# Altium integrated library Maxim Video Amplifier.IntLib: 26 symbols
Pins are listed as number, name and electrical type; pins without a type are passive.

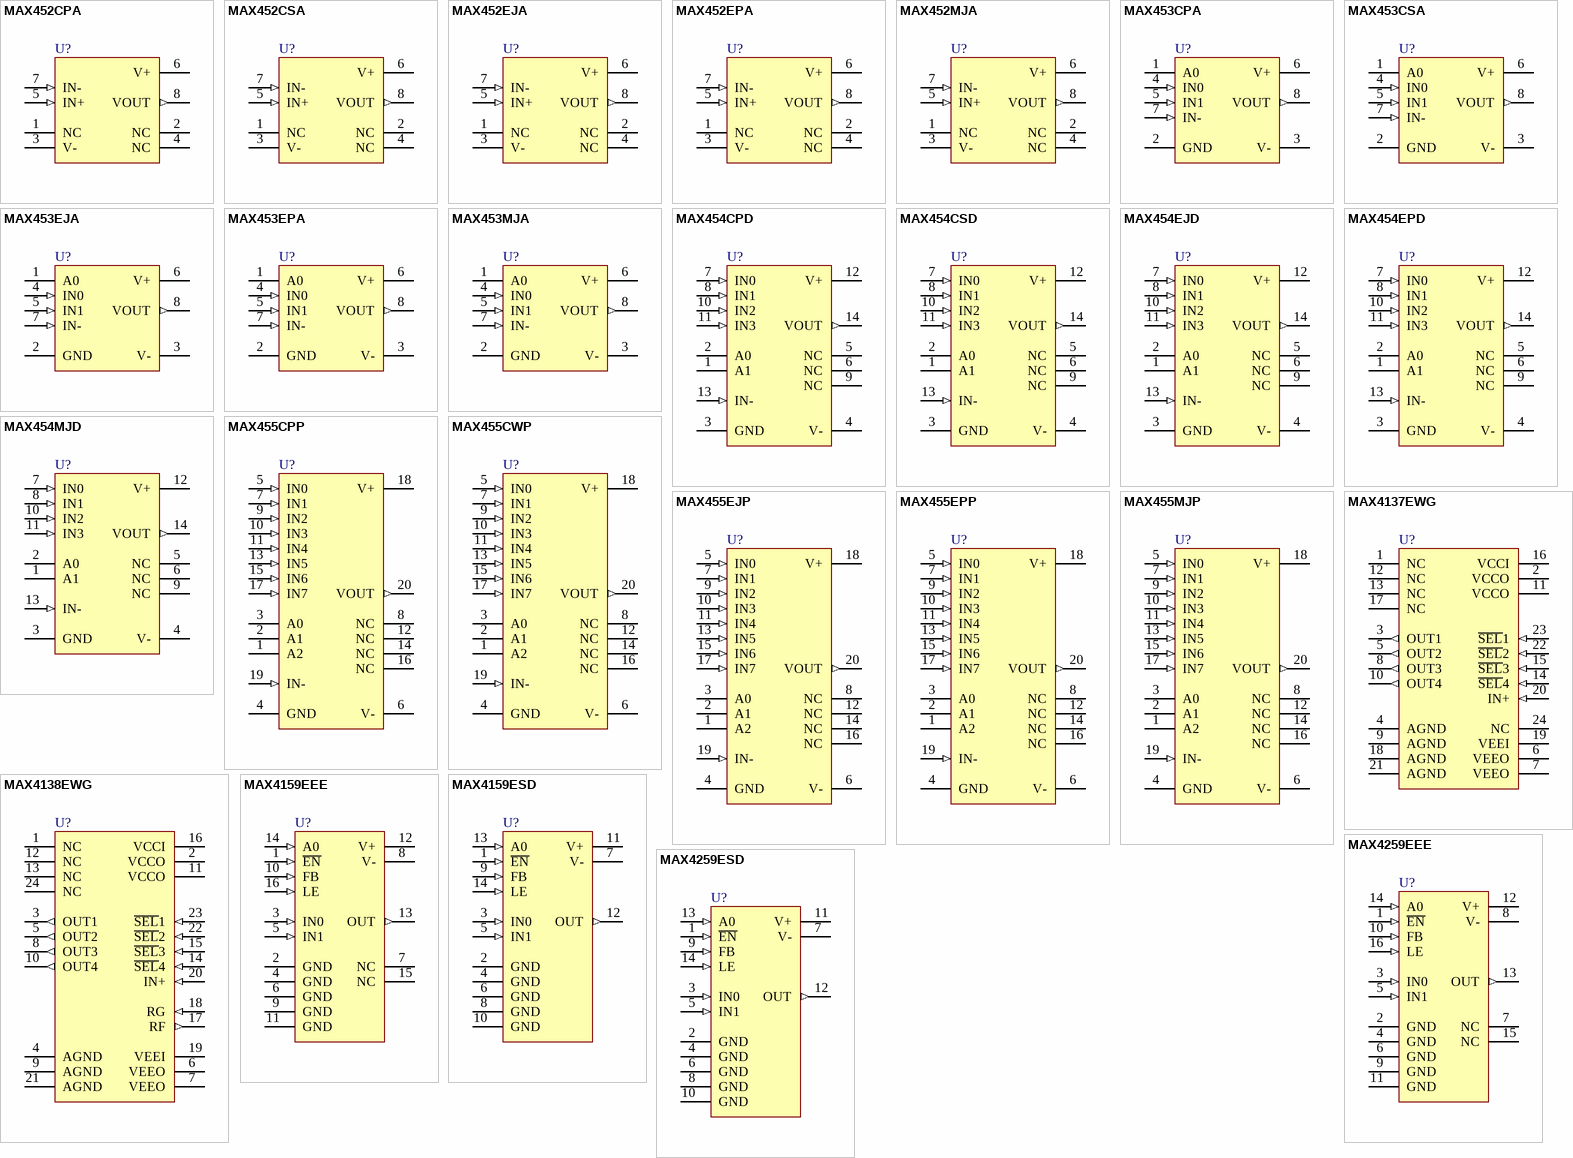
[diagram p0: symbols MAX452CPA to MAX4259ESD]

## MAX452CPA
designator U?
CMOS Video Multiplexer/Amplifier; Published: 16-Jan-2001; LatestRevisionDate: 29-May-2009; LatestRevisionNote: Component Body Added.; DatasheetVersion: Jul-1987; PackageVersion: RevB, 21-0043; PackageReference: PA8; Publisher: Altium Limited; PackageDescription: DIP, 8-Pin, Row Spacing 7.62 mm, Pitch 2.54 mm; Code_JEDEC: MS-001-AB; ComponentLink1Description: Manufacturer Link; ComponentLink1URL: http://www.maxim-ic.com/; ComponentLink2Description: Datasheet; ComponentLink2URL: http://pdfserv.maxim-ic.com/en/ds/MAX452-MAX455.pdf
footprint PA8 (DIP, 8-Leads, Row Spacing 7.62mm, Pitch 2.54mm, Body 9.38x7.24mm)
3D model PA8 (DIP, 8-Pin, Row Spacing 7.62 mm, Pitch 2.54 mm)
pins: 1 NC, 2 NC, 3 V- (power), 4 NC, 5 IN+ (in), 6 V+ (power), 7 IN- (in), 8 VOUT (out)

## MAX452CSA
designator U?
CMOS Video Multiplexer/Amplifier; Published: 16-Jan-2001; LatestRevisionDate: 13-Apr-2006; LatestRevisionNote: IPC-7351 Footprint Added.; DatasheetVersion: Jul-1987; PackageReference: NSO8; Publisher: Altium Limited; PackageDescription: 8-Pin Small Outline Integrated Circuit 1.27 mm Pitch; Code_JEDEC: MS-012-AA; Code_IPC: SOIC127P600-8; ComponentLink1Description: Manufacturer Link; ComponentLink1URL: http://www.maxim-ic.com/; ComponentLink2Description: Datasheet; ComponentLink2URL: http://pdfserv.maxim-ic.com/en/ds/MAX452-MAX455.pdf
footprint NSO8_N (SOIC, 8-Leads, Body 4.9x3.9mm, Pitch 1.27mm, IPC Medium Density)
footprint NSO8_L (SOIC, 8-Leads, Body 4.9x3.9mm, Pitch 1.27mm, IPC High Density)
footprint NSO8_M (SOIC, 8-Leads, Body 4.9x3.9mm, Pitch 1.27mm, IPC Low Density)
3D model NSO8 (8-Pin Small Outline Integrated Circuit 1.27 mm Pitch)
pins: 1 NC, 2 NC, 3 V- (power), 4 NC, 5 IN+ (in), 6 V+ (power), 7 IN- (in), 8 VOUT (out)

## MAX452EJA
designator U?
CMOS Video Multiplexer/Amplifier; Published: 16-Jan-2001; LatestRevisionDate: 29-May-2009; LatestRevisionNote: Component Body Added.; DatasheetVersion: Jul-1987; PackageVersion: 1996; PackageReference: JA8; Publisher: Altium Limited; PackageDescription: DIP, 8-Pin, Row Spacing 7.62 mm, Pitch 2.54 mm; ComponentLink1Description: Manufacturer Link; ComponentLink1URL: http://www.maxim-ic.com/; ComponentLink2Description: Datasheet; ComponentLink2URL: http://pdfserv.maxim-ic.com/en/ds/MAX452-MAX455.pdf
footprint JA8 (DIP, 8-Leads, Row Spacing 7.62mm, Pitch 2.54mm, Body 9.91x6.73mm)
3D model PA8 (DIP, 8-Pin, Row Spacing 7.62 mm, Pitch 2.54 mm)
pins: 1 NC, 2 NC, 3 V- (power), 4 NC, 5 IN+ (in), 6 V+ (power), 7 IN- (in), 8 VOUT (out)

## MAX452EPA
designator U?
CMOS Video Multiplexer/Amplifier; Published: 16-Jan-2001; LatestRevisionDate: 29-May-2009; LatestRevisionNote: Component Body Added.; DatasheetVersion: Jul-1987; PackageVersion: RevB, 21-0043; PackageReference: PA8; Publisher: Altium Limited; PackageDescription: DIP, 8-Pin, Row Spacing 7.62 mm, Pitch 2.54 mm; Code_JEDEC: MS-001-AB; ComponentLink1Description: Manufacturer Link; ComponentLink1URL: http://www.maxim-ic.com/; ComponentLink2Description: Datasheet; ComponentLink2URL: http://pdfserv.maxim-ic.com/en/ds/MAX452-MAX455.pdf
footprint PA8 (DIP, 8-Leads, Row Spacing 7.62mm, Pitch 2.54mm, Body 9.38x7.24mm)
3D model PA8 (DIP, 8-Pin, Row Spacing 7.62 mm, Pitch 2.54 mm)
pins: 1 NC, 2 NC, 3 V- (power), 4 NC, 5 IN+ (in), 6 V+ (power), 7 IN- (in), 8 VOUT (out)

## MAX452MJA
designator U?
CMOS Video Multiplexer/Amplifier; Published: 16-Jan-2001; LatestRevisionDate: 29-May-2009; LatestRevisionNote: Component Body Added.; DatasheetVersion: Jul-1987; PackageVersion: 1996; PackageReference: JA8; Publisher: Altium Limited; PackageDescription: DIP, 8-Pin, Row Spacing 7.62 mm, Pitch 2.54 mm; ComponentLink1Description: Manufacturer Link; ComponentLink1URL: http://www.maxim-ic.com/; ComponentLink2Description: Datasheet; ComponentLink2URL: http://pdfserv.maxim-ic.com/en/ds/MAX452-MAX455.pdf
footprint JA8 (DIP, 8-Leads, Row Spacing 7.62mm, Pitch 2.54mm, Body 9.91x6.73mm)
3D model PA8 (DIP, 8-Pin, Row Spacing 7.62 mm, Pitch 2.54 mm)
pins: 1 NC, 2 NC, 3 V- (power), 4 NC, 5 IN+ (in), 6 V+ (power), 7 IN- (in), 8 VOUT (out)

## MAX453CPA
designator U?
CMOS Video Multiplexer/Amplifier; Published: 16-Jan-2001; LatestRevisionDate: 29-May-2009; LatestRevisionNote: Component Body Added.; DatasheetVersion: Jul-1987; PackageVersion: RevB, 21-0043; PackageReference: PA8; Publisher: Altium Limited; PackageDescription: DIP, 8-Pin, Row Spacing 7.62 mm, Pitch 2.54 mm; Code_JEDEC: MS-001-AB; ComponentLink1Description: Manufacturer Link; ComponentLink1URL: http://www.maxim-ic.com/; ComponentLink2Description: Datasheet; ComponentLink2URL: http://pdfserv.maxim-ic.com/en/ds/MAX452-MAX455.pdf
footprint PA8 (DIP, 8-Leads, Row Spacing 7.62mm, Pitch 2.54mm, Body 9.38x7.24mm)
3D model PA8 (DIP, 8-Pin, Row Spacing 7.62 mm, Pitch 2.54 mm)
pins: 1 A0, 2 GND (power), 3 V- (power), 4 IN0 (in), 5 IN1 (in), 6 V+ (power), 7 IN- (in), 8 VOUT (out)

## MAX453CSA
designator U?
CMOS Video Multiplexer/Amplifier; Published: 16-Jan-2001; LatestRevisionDate: 13-Apr-2006; LatestRevisionNote: IPC-7351 Footprint Added.; DatasheetVersion: Jul-1987; PackageReference: NSO8; Publisher: Altium Limited; PackageDescription: 8-Pin Small Outline Integrated Circuit 1.27 mm Pitch; Code_JEDEC: MS-012-AA; Code_IPC: SOIC127P600-8; ComponentLink1Description: Manufacturer Link; ComponentLink1URL: http://www.maxim-ic.com/; ComponentLink2Description: Datasheet; ComponentLink2URL: http://pdfserv.maxim-ic.com/en/ds/MAX452-MAX455.pdf
footprint NSO8_N (SOIC, 8-Leads, Body 4.9x3.9mm, Pitch 1.27mm, IPC Medium Density)
footprint NSO8_L (SOIC, 8-Leads, Body 4.9x3.9mm, Pitch 1.27mm, IPC High Density)
footprint NSO8_M (SOIC, 8-Leads, Body 4.9x3.9mm, Pitch 1.27mm, IPC Low Density)
3D model NSO8 (8-Pin Small Outline Integrated Circuit 1.27 mm Pitch)
pins: 1 A0, 2 GND (power), 3 V- (power), 4 IN0 (in), 5 IN1 (in), 6 V+ (power), 7 IN- (in), 8 VOUT (out)

## MAX453EJA
designator U?
CMOS Video Multiplexer/Amplifier; Published: 16-Jan-2001; LatestRevisionDate: 29-May-2009; LatestRevisionNote: Component Body Added.; DatasheetVersion: Jul-1987; PackageVersion: 1996; PackageReference: JA8; Publisher: Altium Limited; PackageDescription: DIP, 8-Pin, Row Spacing 7.62 mm, Pitch 2.54 mm; ComponentLink1Description: Manufacturer Link; ComponentLink1URL: http://www.maxim-ic.com/; ComponentLink2Description: Datasheet; ComponentLink2URL: http://pdfserv.maxim-ic.com/en/ds/MAX452-MAX455.pdf
footprint JA8 (DIP, 8-Leads, Row Spacing 7.62mm, Pitch 2.54mm, Body 9.91x6.73mm)
3D model PA8 (DIP, 8-Pin, Row Spacing 7.62 mm, Pitch 2.54 mm)
pins: 1 A0, 2 GND (power), 3 V- (power), 4 IN0 (in), 5 IN1 (in), 6 V+ (power), 7 IN- (in), 8 VOUT (out)

## MAX453EPA
designator U?
CMOS Video Multiplexer/Amplifier; Published: 16-Jan-2001; LatestRevisionDate: 29-May-2009; LatestRevisionNote: Component Body Added.; DatasheetVersion: Jul-1987; PackageVersion: RevB, 21-0043; PackageReference: PA8; Publisher: Altium Limited; PackageDescription: DIP, 8-Pin, Row Spacing 7.62 mm, Pitch 2.54 mm; Code_JEDEC: MS-001-AB; ComponentLink1Description: Manufacturer Link; ComponentLink1URL: http://www.maxim-ic.com/; ComponentLink2Description: Datasheet; ComponentLink2URL: http://pdfserv.maxim-ic.com/en/ds/MAX452-MAX455.pdf
footprint PA8 (DIP, 8-Leads, Row Spacing 7.62mm, Pitch 2.54mm, Body 9.38x7.24mm)
3D model PA8 (DIP, 8-Pin, Row Spacing 7.62 mm, Pitch 2.54 mm)
pins: 1 A0, 2 GND (power), 3 V- (power), 4 IN0 (in), 5 IN1 (in), 6 V+ (power), 7 IN- (in), 8 VOUT (out)

## MAX453MJA
designator U?
CMOS Video Multiplexer/Amplifier; Published: 16-Jan-2001; LatestRevisionDate: 29-May-2009; LatestRevisionNote: Component Body Added.; DatasheetVersion: Jul-1987; PackageVersion: 1996; PackageReference: JA8; Publisher: Altium Limited; PackageDescription: DIP, 8-Pin, Row Spacing 7.62 mm, Pitch 2.54 mm; ComponentLink1Description: Manufacturer Link; ComponentLink1URL: http://www.maxim-ic.com/; ComponentLink2Description: Datasheet; ComponentLink2URL: http://pdfserv.maxim-ic.com/en/ds/MAX452-MAX455.pdf
footprint JA8 (DIP, 8-Leads, Row Spacing 7.62mm, Pitch 2.54mm, Body 9.91x6.73mm)
3D model PA8 (DIP, 8-Pin, Row Spacing 7.62 mm, Pitch 2.54 mm)
pins: 1 A0, 2 GND (power), 3 V- (power), 4 IN0 (in), 5 IN1 (in), 6 V+ (power), 7 IN- (in), 8 VOUT (out)

## MAX454CPD
designator U?
CMOS Video Multiplexer/Amplifier; Published: 16-Jan-2001; LatestRevisionDate: 29-May-2009; LatestRevisionNote: Component Body Added.; DatasheetVersion: Jul-1987; PackageVersion: RevB, 21-0043; PackageReference: PD14; Publisher: Altium Limited; PackageDescription: DIP, 14-Pin, Row Spacing 7.62 mm, Pitch 2.54 mm; Code_JEDEC: MS-001-AC; ComponentLink1Description: Manufacturer Link; ComponentLink1URL: http://www.maxim-ic.com/; ComponentLink2Description: Datasheet; ComponentLink2URL: http://pdfserv.maxim-ic.com/en/ds/MAX452-MAX455.pdf
footprint PD14 (DIP, 14-Leads, Row Spacing 7.62mm, Pitch 2.54mm, Body 19.05x7.24mm)
3D model PD14 (DIP, 14-Pin, Row Spacing 7.62 mm, Pitch 2.54 mm)
pins: 1 A1, 2 A0, 3 GND (power), 4 V- (power), 5 NC, 6 NC, 7 IN0 (in), 8 IN1 (in), 9 NC, 10 IN2 (in), 11 IN3 (in), 12 V+ (power), 13 IN- (in), 14 VOUT (out)

## MAX454CSD
designator U?
CMOS Video Multiplexer/Amplifier; Published: 16-Jan-2001; LatestRevisionDate: 13-Apr-2006; LatestRevisionNote: IPC-7351 Footprint Added.; DatasheetVersion: Jul-1987; PackageReference: NSO14; Publisher: Altium Limited; PackageDescription: 14-Pin Small Outline Integrated Circuit 1.27 mm Pitch; Code_JEDEC: MS-012-AB; Code_IPC: SOIC127P600-14; ComponentLink1Description: Manufacturer Link; ComponentLink1URL: http://www.maxim-ic.com/; ComponentLink2Description: Datasheet; ComponentLink2URL: http://pdfserv.maxim-ic.com/en/ds/MAX452-MAX455.pdf
footprint NSO14_N (SOIC, 14-Leads, Body 8.7x3.9mm, Pitch 1.27mm, IPC Medium Density)
footprint NSO14_L (SOIC, 14-Leads, Body 8.7x3.9mm, Pitch 1.27mm, IPC High Density)
footprint NSO14_M (SOIC, 14-Leads, Body 8.7x3.9mm, Pitch 1.27mm, IPC Low Density)
3D model NSO14 (14-Pin Small Outline Integrated Circuit 1.27 mm Pitch)
pins: 1 A1, 2 A0, 3 GND (power), 4 V- (power), 5 NC, 6 NC, 7 IN0 (in), 8 IN1 (in), 9 NC, 10 IN2 (in), 11 IN3 (in), 12 V+ (power), 13 IN- (in), 14 VOUT (out)

## MAX454EJD
designator U?
CMOS Video Multiplexer/Amplifier; Published: 16-Jan-2001; LatestRevisionDate: 29-May-2009; LatestRevisionNote: Component Body Added.; DatasheetVersion: Jul-1987; PackageVersion: 1996; PackageReference: JD14; Publisher: Altium Limited; PackageDescription: DIP, 14-Pin, Row Spacing 7.62 mm, Pitch 2.54 mm; ComponentLink1Description: Manufacturer Link; ComponentLink1URL: http://www.maxim-ic.com/; ComponentLink2Description: Datasheet; ComponentLink2URL: http://pdfserv.maxim-ic.com/en/ds/MAX452-MAX455.pdf
footprint JD14 (DIP, 14-Leads, Row Spacing 7.62mm, Pitch 2.54mm, Body 19.56x6.73mm)
3D model JD14 (DIP, 14-Pin, Row Spacing 7.62 mm, Pitch 2.54 mm)
pins: 1 A1, 2 A0, 3 GND (power), 4 V- (power), 5 NC, 6 NC, 7 IN0 (in), 8 IN1 (in), 9 NC, 10 IN2 (in), 11 IN3 (in), 12 V+ (power), 13 IN- (in), 14 VOUT (out)

## MAX454EPD
designator U?
CMOS Video Multiplexer/Amplifier; Published: 16-Jan-2001; LatestRevisionDate: 29-May-2009; LatestRevisionNote: Component Body Added.; DatasheetVersion: Jul-1987; PackageVersion: RevB, 21-0043; PackageReference: PD14; Publisher: Altium Limited; PackageDescription: DIP, 14-Pin, Row Spacing 7.62 mm, Pitch 2.54 mm; Code_JEDEC: MS-001-AC; ComponentLink1Description: Manufacturer Link; ComponentLink1URL: http://www.maxim-ic.com/; ComponentLink2Description: Datasheet; ComponentLink2URL: http://pdfserv.maxim-ic.com/en/ds/MAX452-MAX455.pdf
footprint PD14 (DIP, 14-Leads, Row Spacing 7.62mm, Pitch 2.54mm, Body 19.05x7.24mm)
3D model PD14 (DIP, 14-Pin, Row Spacing 7.62 mm, Pitch 2.54 mm)
pins: 1 A1, 2 A0, 3 GND (power), 4 V- (power), 5 NC, 6 NC, 7 IN0 (in), 8 IN1 (in), 9 NC, 10 IN2 (in), 11 IN3 (in), 12 V+ (power), 13 IN- (in), 14 VOUT (out)

## MAX454MJD
designator U?
CMOS Video Multiplexer/Amplifier; Published: 16-Jan-2001; LatestRevisionDate: 29-May-2009; LatestRevisionNote: Component Body Added.; DatasheetVersion: Jul-1987; PackageVersion: 1996; PackageReference: JD14; Publisher: Altium Limited; PackageDescription: DIP, 14-Pin, Row Spacing 7.62 mm, Pitch 2.54 mm; ComponentLink1Description: Manufacturer Link; ComponentLink1URL: http://www.maxim-ic.com/; ComponentLink2Description: Datasheet; ComponentLink2URL: http://pdfserv.maxim-ic.com/en/ds/MAX452-MAX455.pdf
footprint JD14 (DIP, 14-Leads, Row Spacing 7.62mm, Pitch 2.54mm, Body 19.56x6.73mm)
3D model JD14 (DIP, 14-Pin, Row Spacing 7.62 mm, Pitch 2.54 mm)
pins: 1 A1, 2 A0, 3 GND (power), 4 V- (power), 5 NC, 6 NC, 7 IN0 (in), 8 IN1 (in), 9 NC, 10 IN2 (in), 11 IN3 (in), 12 V+ (power), 13 IN- (in), 14 VOUT (out)

## MAX455CPP
designator U?
CMOS Video Multiplexer/Amplifier; Published: 16-Jan-2001; LatestRevisionDate: 29-May-2009; LatestRevisionNote: Component Body Added.; DatasheetVersion: Jul-1987; PackageVersion: RevB, 21-0043; PackageReference: PP20; Publisher: Altium Limited; PackageDescription: DIP, 20-Pin, Row Spacing 7.62 mm, Pitch 2.54 mm; Code_JEDEC: MS-001-AE; ComponentLink1Description: Manufacturer Link; ComponentLink1URL: http://www.maxim-ic.com/; ComponentLink2Description: Datasheet; ComponentLink2URL: http://pdfserv.maxim-ic.com/en/ds/MAX452-MAX455.pdf
footprint PP20 (DIP, 20-Leads, Row Spacing 7.62mm, Pitch 2.54mm, Body 26.16x7.24mm)
3D model PP20 (DIP, 20-Pin, Row Spacing 7.62 mm, Pitch 2.54 mm)
pins: 1 A2, 2 A1, 3 A0, 4 GND (power), 5 IN0 (in), 6 V- (power), 7 IN1 (in), 8 NC, 9 IN2 (in), 10 IN3 (in), 11 IN4 (in), 12 NC, 13 IN5 (in), 14 NC, 15 IN6 (in), 16 NC, 17 IN7 (in), 18 V+ (power), 19 IN- (in), 20 VOUT (out)

## MAX455CWP
designator U?
CMOS Video Multiplexer/Amplifier; Published: 16-Jan-2001; LatestRevisionDate: 13-Apr-2006; LatestRevisionNote: IPC-7351 Footprint Added.; DatasheetVersion: Jul-1987; PackageReference: WSO20; Publisher: Altium Limited; PackageDescription: 20-Pin Small Outline Integrated Circuit 1.27 mm Pitch; Code_JEDEC: MS-013-AC; Code_IPC: SOIC127P1030-20; ComponentLink1Description: Manufacturer Link; ComponentLink1URL: http://www.maxim-ic.com/; ComponentLink2Description: Datasheet; ComponentLink2URL: http://pdfserv.maxim-ic.com/en/ds/MAX452-MAX455.pdf
footprint WSO20_N (SOIC, 20-Leads, Body 12.8x7.5mm, Pitch 1.27mm, IPC Medium Density)
footprint WSO20_L (SOIC, 20-Leads, Body 12.8x7.5mm, Pitch 1.27mm, IPC High Density)
footprint WSO20_M (SOIC, 20-Leads, Body 12.8x7.5mm, Pitch 1.27mm, IPC Low Density)
3D model WSO20 (20-Pin Small Outline Integrated Circuit 1.27 mm Pitch)
pins: 1 A2, 2 A1, 3 A0, 4 GND (power), 5 IN0 (in), 6 V- (power), 7 IN1 (in), 8 NC, 9 IN2 (in), 10 IN3 (in), 11 IN4 (in), 12 NC, 13 IN5 (in), 14 NC, 15 IN6 (in), 16 NC, 17 IN7 (in), 18 V+ (power), 19 IN- (in), 20 VOUT (out)

## MAX455EJP
designator U?
CMOS Video Multiplexer/Amplifier; Published: 16-Jan-2001; LatestRevisionDate: 29-May-2009; LatestRevisionNote: Component Body Added.; DatasheetVersion: Jul-1987; PackageVersion: 1996; PackageReference: JP20; Publisher: Altium Limited; PackageDescription: DIP, 20-Pin, Row Spacing 7.62 mm, Pitch 2.54 mm; Code_JEDEC: MS-001-AD; ComponentLink1Description: Manufacturer Link; ComponentLink1URL: http://www.maxim-ic.com/; ComponentLink2Description: Datasheet; ComponentLink2URL: http://pdfserv.maxim-ic.com/en/ds/MAX452-MAX455.pdf
footprint JP20 (DIP, 20-Leads, Row Spacing 7.62mm, Pitch 2.54mm, Body 25.91x6.73mm)
3D model PP20 (DIP, 20-Pin, Row Spacing 7.62 mm, Pitch 2.54 mm)
pins: 1 A2, 2 A1, 3 A0, 4 GND (power), 5 IN0 (in), 6 V- (power), 7 IN1 (in), 8 NC, 9 IN2 (in), 10 IN3 (in), 11 IN4 (in), 12 NC, 13 IN5 (in), 14 NC, 15 IN6 (in), 16 NC, 17 IN7 (in), 18 V+ (power), 19 IN- (in), 20 VOUT (out)

## MAX455EPP
designator U?
CMOS Video Multiplexer/Amplifier; Published: 16-Jan-2001; LatestRevisionDate: 29-May-2009; LatestRevisionNote: Component Body Added.; DatasheetVersion: Jul-1987; PackageVersion: RevB, 21-0043; PackageReference: PP20; Publisher: Altium Limited; PackageDescription: DIP, 20-Pin, Row Spacing 7.62 mm, Pitch 2.54 mm; Code_JEDEC: MS-001-AE; ComponentLink1Description: Manufacturer Link; ComponentLink1URL: http://www.maxim-ic.com/; ComponentLink2Description: Datasheet; ComponentLink2URL: http://pdfserv.maxim-ic.com/en/ds/MAX452-MAX455.pdf
footprint PP20 (DIP, 20-Leads, Row Spacing 7.62mm, Pitch 2.54mm, Body 26.16x7.24mm)
3D model PP20 (DIP, 20-Pin, Row Spacing 7.62 mm, Pitch 2.54 mm)
pins: 1 A2, 2 A1, 3 A0, 4 GND (power), 5 IN0 (in), 6 V- (power), 7 IN1 (in), 8 NC, 9 IN2 (in), 10 IN3 (in), 11 IN4 (in), 12 NC, 13 IN5 (in), 14 NC, 15 IN6 (in), 16 NC, 17 IN7 (in), 18 V+ (power), 19 IN- (in), 20 VOUT (out)

## MAX455MJP
designator U?
CMOS Video Multiplexer/Amplifier; Published: 16-Jan-2001; LatestRevisionDate: 29-May-2009; LatestRevisionNote: Component Body Added.; DatasheetVersion: Jul-1987; PackageVersion: 1996; PackageReference: JP20; Publisher: Altium Limited; PackageDescription: DIP, 20-Pin, Row Spacing 7.62 mm, Pitch 2.54 mm; Code_JEDEC: MS-001-AD; ComponentLink1Description: Manufacturer Link; ComponentLink1URL: http://www.maxim-ic.com/; ComponentLink2Description: Datasheet; ComponentLink2URL: http://pdfserv.maxim-ic.com/en/ds/MAX452-MAX455.pdf
footprint JP20 (DIP, 20-Leads, Row Spacing 7.62mm, Pitch 2.54mm, Body 25.91x6.73mm)
3D model PP20 (DIP, 20-Pin, Row Spacing 7.62 mm, Pitch 2.54 mm)
pins: 1 A2, 2 A1, 3 A0, 4 GND (power), 5 IN0 (in), 6 V- (power), 7 IN1 (in), 8 NC, 9 IN2 (in), 10 IN3 (in), 11 IN4 (in), 12 NC, 13 IN5 (in), 14 NC, 15 IN6 (in), 16 NC, 17 IN7 (in), 18 V+ (power), 19 IN- (in), 20 VOUT (out)

## MAX4137EWG
designator U?
1-Input/4-Output Video Distribution Amplifier; Published: 16-Jan-2001; LatestRevisionDate: 13-Apr-2006; LatestRevisionNote: IPC-7351 Footprint Added.; DatasheetVersion: Jun-1996; PackageReference: WSO24; Publisher: Altium Limited; PackageDescription: 24-Pin Small Outline Integrated Circuit 1.27 mm Pitch; ComponentLink1Description: Manufacturer Link; ComponentLink1URL: http://www.maxim-ic.com/; ComponentLink2Description: Datasheet; ComponentLink2URL: http://pdfserv.maxim-ic.com/en/ds/MAX4137-MAX4138.pdf
footprint WSO24_N (SOIC, 24-Leads, Body 15.4x7.5mm, Pitch 1.27mm, IPC Medium Density)
footprint WSO24_L (SOIC, 24-Leads, Body 15.4x7.5mm, Pitch 1.27mm, IPC High Density)
footprint WSO24_M (SOIC, 24-Leads, Body 15.4x7.5mm, Pitch 1.27mm, IPC Low Density)
3D model WSO24 (24-Pin Small Outline Integrated Circuit 1.27 mm Pitch)
pins: 1 NC, 2 VCCO (power), 3 OUT1 (out), 4 AGND (power), 5 OUT2 (out), 6 VEEO (power), 7 VEEO (power), 8 OUT3 (out), 9 AGND (power), 10 OUT4 (out), 11 VCCO (power), 12 NC, 13 NC, 14 ~{SEL}4 (in), 15 ~{SEL}3 (in), 16 VCCI (power), 17 NC, 18 AGND (power), 19 VEEI (power), 20 IN+ (in), 21 AGND (power), 22 ~{SEL}2 (in), 23 ~{SEL}1 (in), 24 NC

## MAX4138EWG
designator U?
1-Input/4-Output Video Distribution Amplifier; Published: 16-Jan-2001; LatestRevisionDate: 13-Apr-2006; LatestRevisionNote: IPC-7351 Footprint Added.; DatasheetVersion: Jun-1996; PackageReference: WSO24; Publisher: Altium Limited; PackageDescription: 24-Pin Small Outline Integrated Circuit 1.27 mm Pitch; ComponentLink1Description: Manufacturer Link; ComponentLink1URL: http://www.maxim-ic.com/; ComponentLink2Description: Datasheet; ComponentLink2URL: http://pdfserv.maxim-ic.com/en/ds/MAX4137-MAX4138.pdf
footprint WSO24_N (SOIC, 24-Leads, Body 15.4x7.5mm, Pitch 1.27mm, IPC Medium Density)
footprint WSO24_L (SOIC, 24-Leads, Body 15.4x7.5mm, Pitch 1.27mm, IPC High Density)
footprint WSO24_M (SOIC, 24-Leads, Body 15.4x7.5mm, Pitch 1.27mm, IPC Low Density)
3D model WSO24 (24-Pin Small Outline Integrated Circuit 1.27 mm Pitch)
pins: 1 NC, 2 VCCO (power), 3 OUT1 (out), 4 AGND (power), 5 OUT2 (out), 6 VEEO (power), 7 VEEO (power), 8 OUT3 (out), 9 AGND (power), 10 OUT4 (out), 11 VCCO (power), 12 NC, 13 NC, 14 ~{SEL}4 (in), 15 ~{SEL}3 (in), 16 VCCI (power), 17 RF (out), 18 RG (in), 19 VEEI (power), 20 IN+ (in), 21 AGND (power), 22 ~{SEL}2 (in), 23 ~{SEL}1 (in), 24 NC

## MAX4159EEE
designator U?
350MHz 2-Channel Video Multiplexer-Amplifier; Note: SIM model doesn't simulate the switching between pins IN0 and IN1. This model has pin IN0 as default.; Published: 23-Sep-2002; LatestRevisionDate: 29-May-2009; LatestRevisionNote: IPC-7351 Footprint Added.; DatasheetVersion: Rev 1; 3/97; PackageVersion: 1998; PackageReference: SOP16; Publisher: Altium Limited; PackageDescription: 16-Pin Small Outline Package 0.635 mm Pitch; Code_JEDEC: MO-137-AB; Code_IPC: SOP635P600-16; ComponentLink1Description: Manufacturer Link; ComponentLink1URL: http://www.maxim-ic.com/; ComponentLink2Description: Datasheet; ComponentLink2URL: http://pdfserv.maxim-ic.com/en/ds/MAX4158-MAX4259.pdf
footprint SOP16_N (SOP, 16-Leads, Body 4.9x3.9mm, Pitch 0.635mm, IPC Medium Density)
footprint SOP16_L (SOP, 16-Leads, Body 4.9x3.9mm, Pitch 0.635mm, IPC High Density)
footprint SOP16_M (SOP, 16-Leads, Body 4.9x3.9mm, Pitch 0.635mm, IPC Low Density)
3D model SOP16 (16-Pin Small Outline Package 0.635 mm Pitch)
simulation model MAX4159 (SUBCKT)
pins: 1 ~{EN} (in), 2 GND (power), 3 IN0 (in), 4 GND (power), 5 IN1 (in), 6 GND (power), 7 NC, 8 V- (power), 9 GND (power), 10 FB (in), 11 GND (power), 12 V+ (power), 13 OUT (out), 14 A0 (in), 15 NC, 16 LE (in)

## MAX4159ESD
designator U?
350MHz 2-Channel Video Multiplexer-Amplifier; Note: SIM model doesn't simulate the switching between pins IN0 and IN1. This model has pin IN0 as default.; Published: 23-Sep-2002; LatestRevisionDate: 13-Apr-2006; LatestRevisionNote: IPC-7351 Footprint Added.; DatasheetVersion: Rev 1; 3/97; PackageReference: NSO14; Publisher: Altium Limited; PackageDescription: 14-Pin Small Outline Integrated Circuit 1.27 mm Pitch; Code_JEDEC: MS-012-AB; Code_IPC: SOIC127P600-14; ComponentLink1Description: Manufacturer Link; ComponentLink1URL: http://www.maxim-ic.com/; ComponentLink2Description: Datasheet; ComponentLink2URL: http://pdfserv.maxim-ic.com/en/ds/MAX4158-MAX4259.pdf
footprint NSO14_N (SOIC, 14-Leads, Body 8.7x3.9mm, Pitch 1.27mm, IPC Medium Density)
footprint NSO14_L (SOIC, 14-Leads, Body 8.7x3.9mm, Pitch 1.27mm, IPC High Density)
footprint NSO14_M (SOIC, 14-Leads, Body 8.7x3.9mm, Pitch 1.27mm, IPC Low Density)
3D model NSO14 (14-Pin Small Outline Integrated Circuit 1.27 mm Pitch)
simulation model MAX4159 (SUBCKT)
pins: 1 ~{EN} (in), 2 GND (power), 3 IN0 (in), 4 GND (power), 5 IN1 (in), 6 GND (power), 7 V- (power), 8 GND (power), 9 FB (in), 10 GND (power), 11 V+ (power), 12 OUT (out), 13 A0 (in), 14 LE (in)

## MAX4259EEE
designator U?
250MHz 2-Channel Video Multiplexer-Amplifier; Note: SIM model doesn't simulate the switching between pins IN0 and IN1. This model has pin IN0 as default.; Published: 23-Sep-2002; LatestRevisionDate: 29-May-2009; LatestRevisionNote: IPC-7351 Footprint Added.; DatasheetVersion: Rev 1; 3/97; PackageVersion: 1998; PackageReference: SOP16; Publisher: Altium Limited; PackageDescription: 16-Pin Small Outline Package 0.635 mm Pitch; Code_JEDEC: MO-137-AB; Code_IPC: SOP635P600-16; ComponentLink1Description: Manufacturer Link; ComponentLink1URL: http://www.maxim-ic.com/; ComponentLink2Description: Datasheet; ComponentLink2URL: http://pdfserv.maxim-ic.com/en/ds/MAX4158-MAX4259.pdf
footprint SOP16_N (SOP, 16-Leads, Body 4.9x3.9mm, Pitch 0.635mm, IPC Medium Density)
footprint SOP16_L (SOP, 16-Leads, Body 4.9x3.9mm, Pitch 0.635mm, IPC High Density)
footprint SOP16_M (SOP, 16-Leads, Body 4.9x3.9mm, Pitch 0.635mm, IPC Low Density)
3D model SOP16 (16-Pin Small Outline Package 0.635 mm Pitch)
simulation model MAX4259 (SUBCKT)
pins: 1 ~{EN} (in), 2 GND (power), 3 IN0 (in), 4 GND (power), 5 IN1 (in), 6 GND (power), 7 NC, 8 V- (power), 9 GND (power), 10 FB (in), 11 GND (power), 12 V+ (power), 13 OUT (out), 14 A0 (in), 15 NC, 16 LE (in)

## MAX4259ESD
designator U?
250MHz 2-Channel Video Multiplexer-Amplifier; Note: SIM model doesn't simulate the switching between pins IN0 and IN1. This model has pin IN0 as default.; Published: 23-Sep-2002; LatestRevisionDate: 13-Apr-2006; LatestRevisionNote: IPC-7351 Footprint Added.; DatasheetVersion: Rev 1; 3/97; PackageReference: NSO14; Publisher: Altium Limited; PackageDescription: 14-Pin Small Outline Integrated Circuit 1.27 mm Pitch; Code_JEDEC: MS-012-AB; Code_IPC: SOIC127P600-14; ComponentLink1Description: Manufacturer Link; ComponentLink1URL: http://www.maxim-ic.com/; ComponentLink2Description: Datasheet; ComponentLink2URL: http://pdfserv.maxim-ic.com/en/ds/MAX4158-MAX4259.pdf
footprint NSO14_N (SOIC, 14-Leads, Body 8.7x3.9mm, Pitch 1.27mm, IPC Medium Density)
footprint NSO14_L (SOIC, 14-Leads, Body 8.7x3.9mm, Pitch 1.27mm, IPC High Density)
footprint NSO14_M (SOIC, 14-Leads, Body 8.7x3.9mm, Pitch 1.27mm, IPC Low Density)
3D model NSO14 (14-Pin Small Outline Integrated Circuit 1.27 mm Pitch)
simulation model MAX4259 (SUBCKT)
pins: 1 ~{EN} (in), 2 GND (power), 3 IN0 (in), 4 GND (power), 5 IN1 (in), 6 GND (power), 7 V- (power), 8 GND (power), 9 FB (in), 10 GND (power), 11 V+ (power), 12 OUT (out), 13 A0 (in), 14 LE (in)